# Altium schematic symbol library Molex46562-1150.SchLib: 1 symbol
Pins are listed as number, name and electrical type; pins without a type are passive.

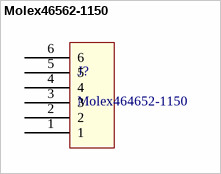
[diagram p0: symbol Molex46562-1150]

## Molex46562-1150
designator J?, comment Molex464652-1150
2.54mm, 5.50mm Pitch EXTreme Ten60Power Vertical Receptacle Assembly with Guide Receivers, 6 Power Circuits; ComponentLink1Description: Molex Website; ComponentLink1URL: https://www.molex.com/molex/products/datasheet.jsp?part=active/0465621150_PCB_RECEPTACLES.xml
footprint PCBComponent_1
pins: 1, 2, 3, 4, 5, 6